# Altium integrated library Personal_Library.IntLib: 19 symbols
Pins are listed as number, name and electrical type; pins without a type are passive.

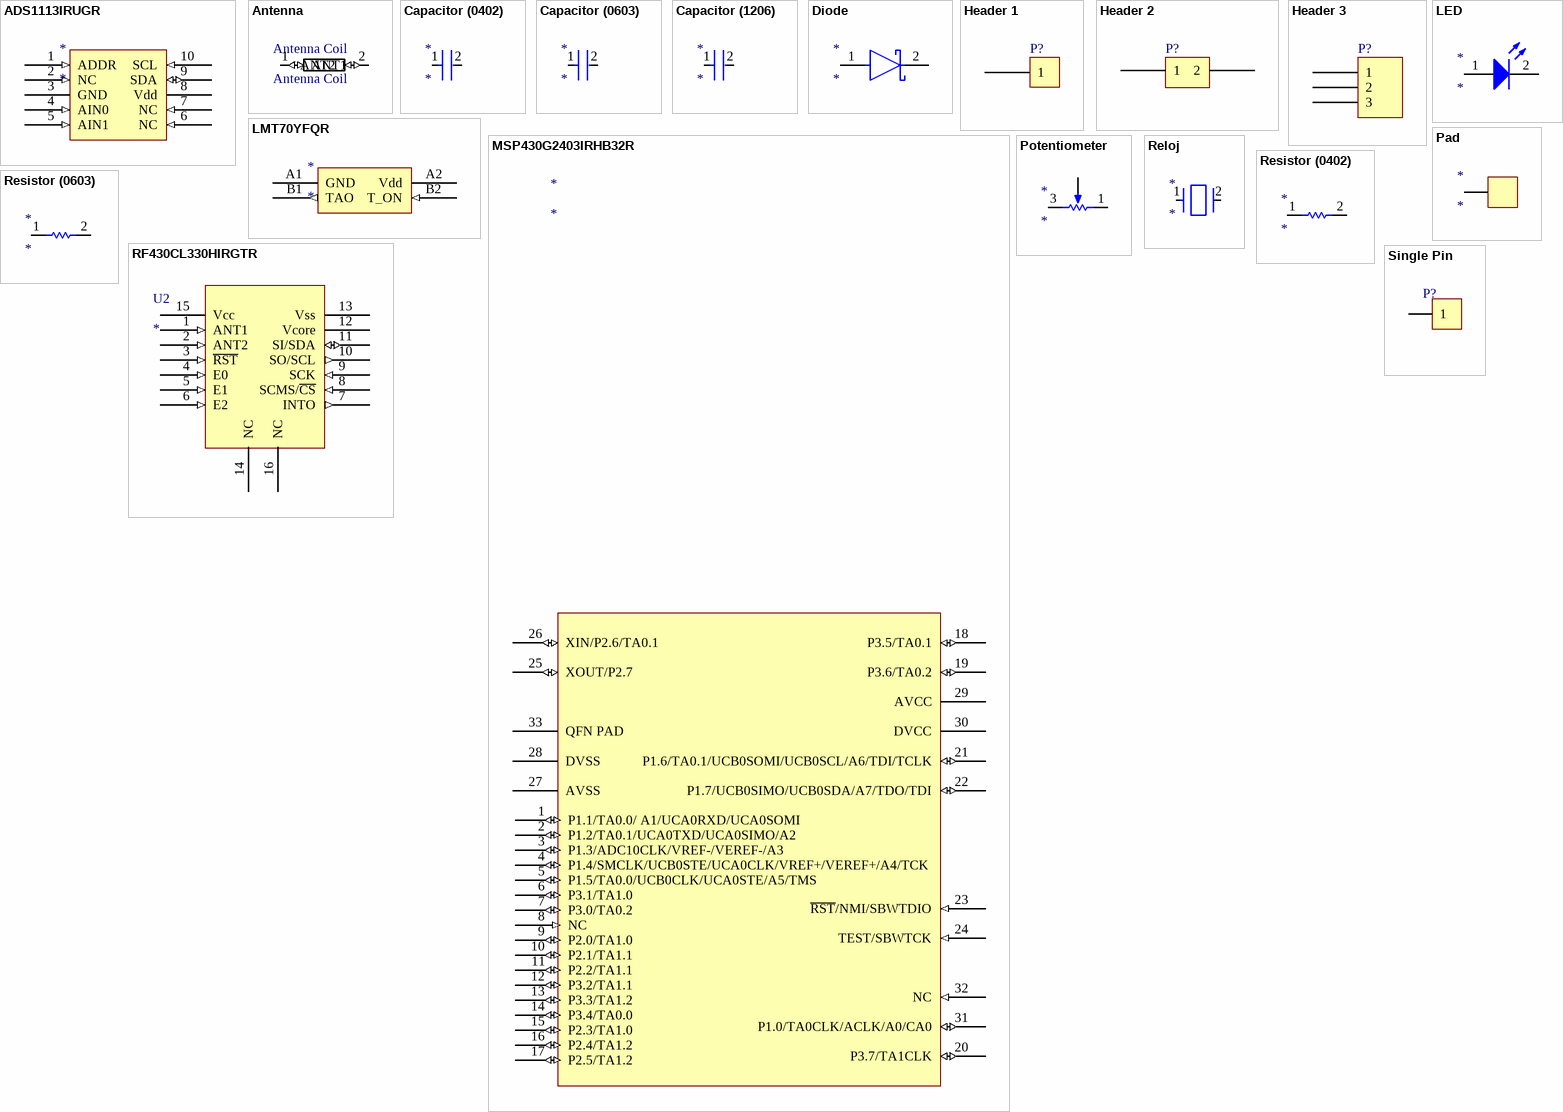
[diagram p0: symbols ADS1113IRUGR to Single Pin]

## ADS1113IRUGR
designator *
Converter ADC
footprint ADS1113IRUGR
pins: 1 ADDR (in), 2 NC (in), 3 GND (power), 4 AIN0 (in), 5 AIN1 (in), 6 NC (in), 7 NC (in), 8 Vdd (power), 9 SDA (io), 10 SCL (in)

## Antenna
designator Antenna Coil, comment Antenna Coil
footprint Antenna
pins: 1 ANT1 (io), 2 ANT2 (io)

## Capacitor (0402)
designator *
footprint CAPACITOR (0402) (Chip Capacitor, Body 1.0x0.5mm, IPC High Density)
pins: 1, 2

## Capacitor (0603)
designator *
footprint Capacitor (0603)
pins: 1, 2

## Capacitor (1206)
designator *
footprint Capacitor (1206)
pins: 1, 2

## Diode
designator *
footprint Diode
pins: 1 A, 2 C

## Header 1
designator P?
Header, 1-Pin; LatestRevisionDate: 17-Jul-2002; LatestRevisionNote: Re-released for DXP Platform.; Publisher: Altium Limited
signal-integrity model Connector
footprint HDR1 (Connector; Header; 2 Position)
pins: 1

## Header 2
designator P?
Header, 2-Pin; LatestRevisionDate: 17-Jul-2002; LatestRevisionNote: Re-released for DXP Platform.; Publisher: Altium Limited
signal-integrity model Connector
footprint HDR1X2 (Connector; Header; 2 Position)
pins: 1, 2

## Header 3
designator P?
Header, 3-Pin; LatestRevisionDate: 17-Jul-2002; LatestRevisionNote: Re-released for DXP Platform.; Publisher: Altium Limited
signal-integrity model Connector
footprint HDR1X3 (pins) (Connector; Header; 3 Position)
pins: 1, 2, 3

## LED
designator *
footprint Led (0603) (https://www.digikey.es/en/products/detail/rohm-semiconductor/CSL1901UW1/16685590)
pins: 1 A, 2 K

## LMT70YFQR
designator *
Thermistor
footprint LMT70YFQR
pins: A1 GND (power), A2 Vdd (power), B1 TAO (out), B2 T_ON (in)

## MSP430G2403IRHB32R
designator *
Mixed-Signal Microcontroller
footprint MSP430G2403IRHB32R
pins: 1 P1.1/TA0.0/ A1/UCA0RXD/UCA0SOMI (io), 2 P1.2/TA0.1/UCA0TXD/UCA0SIMO/A2 (io), 3 P1.3/ADC10CLK/VREF-/VEREF-/A3 (io), 4 P1.4/SMCLK/UCB0STE/UCA0CLK/VREF+/VEREF+/A4/TCK (io), 5 P1.5/TA0.0/UCB0CLK/UCA0STE/A5/TMS (io), 6 P3.1/TA1.0 (io), 7 P3.0/TA0.2 (io), 8 NC (in), 9 P2.0/TA1.0 (io), 10 P2.1/TA1.1 (io), 11 P2.2/TA1.1 (io), 12 P3.2/TA1.1 (io), 13 P3.3/TA1.2 (io), 14 P3.4/TA0.0 (io), 15 P2.3/TA1.0 (io), 16 P2.4/TA1.2 (io), 17 P2.5/TA1.2 (io), 18 P3.5/TA0.1 (io), 19 P3.6/TA0.2 (io), 20 P3.7/TA1CLK (io), 21 P1.6/TA0.1/UCB0SOMI/UCB0SCL/A6/TDI/TCLK (io), 22 P1.7/UCB0SIMO/UCB0SDA/A7/TDO/TDI (io), 23 ~{RST}/NMI/SBWTDIO (in), 24 TEST/SBWTCK (in), 25 XOUT/P2.7 (io), 26 XIN/P2.6/TA0.1 (io), 27 AVSS (power), 28 DVSS (power), 29 AVCC (power), 30 DVCC (power), 31 P1.0/TA0CLK/ACLK/A0/CA0 (io), 32 NC (in), 33 QFN PAD (oe)

## Pad
designator *
footprint Pad
pins: 1

## Potentiometer
designator *
footprint Potentiometer (Thru-Hole; 3 Leads)
pins: 1 TOP, 2 TAP, 3 BOT

## Reloj
designator *
footprint Reloj (Crystal 32,768 kHz)
pins: 1, 2

## Resistor (0402)
designator *
footprint RESISTOR (0402) (Chip Capacitor, Body 1.0x0.5mm, IPC High Density)
pins: 1, 2

## Resistor (0603)
designator *
footprint Resistor (0603)
pins: 1, 2

## RF430CL330HIRGTR
designator U2
Dynamic NFC Interface Transponder
footprint RF430CL330HIRGTR (QFN, 16-Leads, Body 3,00x3,00mm, Pitch 0,50mm, Thermal Pad 1,74x1,74mm, IPC Medium Density)
pins: 1 ANT1 (in), 2 ANT2 (in), 3 ~{RST} (in), 4 E0 (in), 5 E1 (in), 6 E2 (in), 7 INTO (out), 8 SCMS/~{CS} (in), 9 SCK (in), 10 SO/SCL (out), 11 SI/SDA (io), 12 Vcore (power), 13 Vss (power), 14 NC (power), 15 Vcc (power), 16 NC

## Single Pin
designator P?
Header, 1-Pin; LatestRevisionDate: 17-Jul-2002; LatestRevisionNote: Re-released for DXP Platform.; Publisher: Altium Limited
signal-integrity model Connector
footprint Single pin (Connector; Header; 2 Position)
pins: 1